# Altium schematic symbol library Sch_pcm3168.SchLib: 1 symbol
Pins are listed as number, name and electrical type; pins without a type are passive.

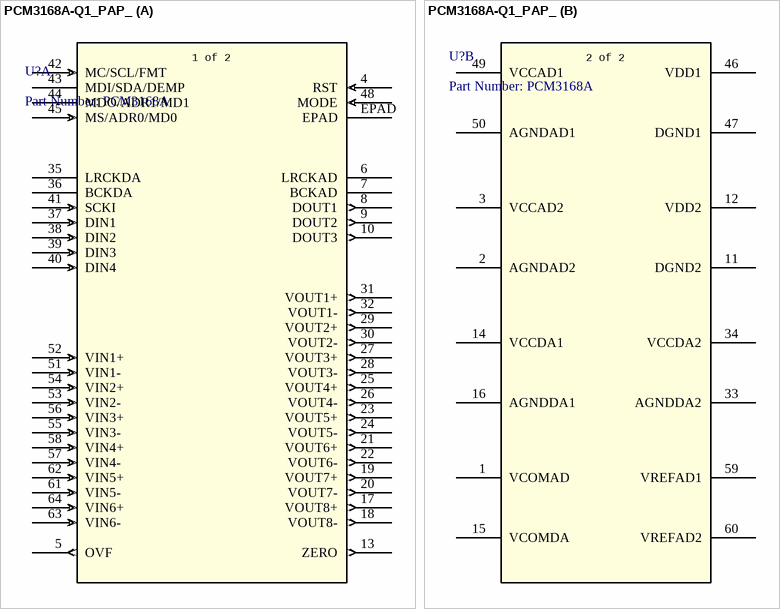
[diagram p0: symbol PCM3168A-Q1_PAP_]

## PCM3168A-Q1_PAP_
designator U?, comment Part Number: PCM3168A
Manufacturer: Texas Instruments; Manufacturer_Part_Number: PCM3168A-Q1_PAP_64; Vendor: Texas Instruments; Cod. Proveedor: *; Encapsulado: *; Link: *; Proveedor: *
footprint PAP64_7X7P26
part A pins: 4 RST (in), 5 OVF (out), 6 LRCKAD, 7 BCKAD, 8 DOUT1 (out), 9 DOUT2 (out), 10 DOUT3 (out), 13 ZERO (out), 17 VOUT8+ (out), 18 VOUT8- (out), 19 VOUT7+ (out), 20 VOUT7- (out), 21 VOUT6+ (out), 22 VOUT6- (out), 23 VOUT5+ (out), 24 VOUT5- (out), 25 VOUT4+ (out), 26 VOUT4- (out), 27 VOUT3+ (out), 28 VOUT3- (out), 29 VOUT2+ (out), 30 VOUT2- (out), 31 VOUT1+ (out), 32 VOUT1- (out), 35 LRCKDA, 36 BCKDA, 37 DIN1 (in), 38 DIN2 (in), 39 DIN3 (in), 40 DIN4 (in), 41 SCKI (in), 42 MC/SCL/FMT (in), 43 MDI/SDA/DEMP, 44 MDO/ADR1/MD1, 45 MS/ADR0/MD0 (in), 48 MODE (in), 51 VIN1- (in), 52 VIN1+ (in), 53 VIN2- (in), 54 VIN2+ (in), 55 VIN3- (in), 56 VIN3+ (in), 57 VIN4- (in), 58 VIN4+ (in), 61 VIN5- (in), 62 VIN5+ (in), 63 VIN6- (in), 64 VIN6+ (in), EPAD
part B pins: 1 VCOMAD (power), 2 AGNDAD2 (power), 3 VCCAD2 (power), 11 DGND2 (power), 12 VDD2 (power), 14 VCCDA1 (power), 15 VCOMDA (power), 16 AGNDDA1 (power), 33 AGNDDA2 (power), 34 VCCDA2 (power), 46 VDD1 (power), 47 DGND1 (power), 49 VCCAD1 (power), 50 AGNDAD1 (power), 59 VREFAD1 (power), 60 VREFAD2 (power)
part A text: 1 of 2
part B text: 2 of 2